# Altium footprint library Conn Breakaway Single Row.PcbLib: 40 footprints (part 1 of 3)
Each footprint in its own frame and in the unit in brackets; x right, y up, seen from the top. Pads: shape width x height; smd on the part's side, far side on the other; paste and mask are expansions set on the pad; w line width, h text height; cw(c..) or ccw(c..) is an arc to the next point about the centre after c.
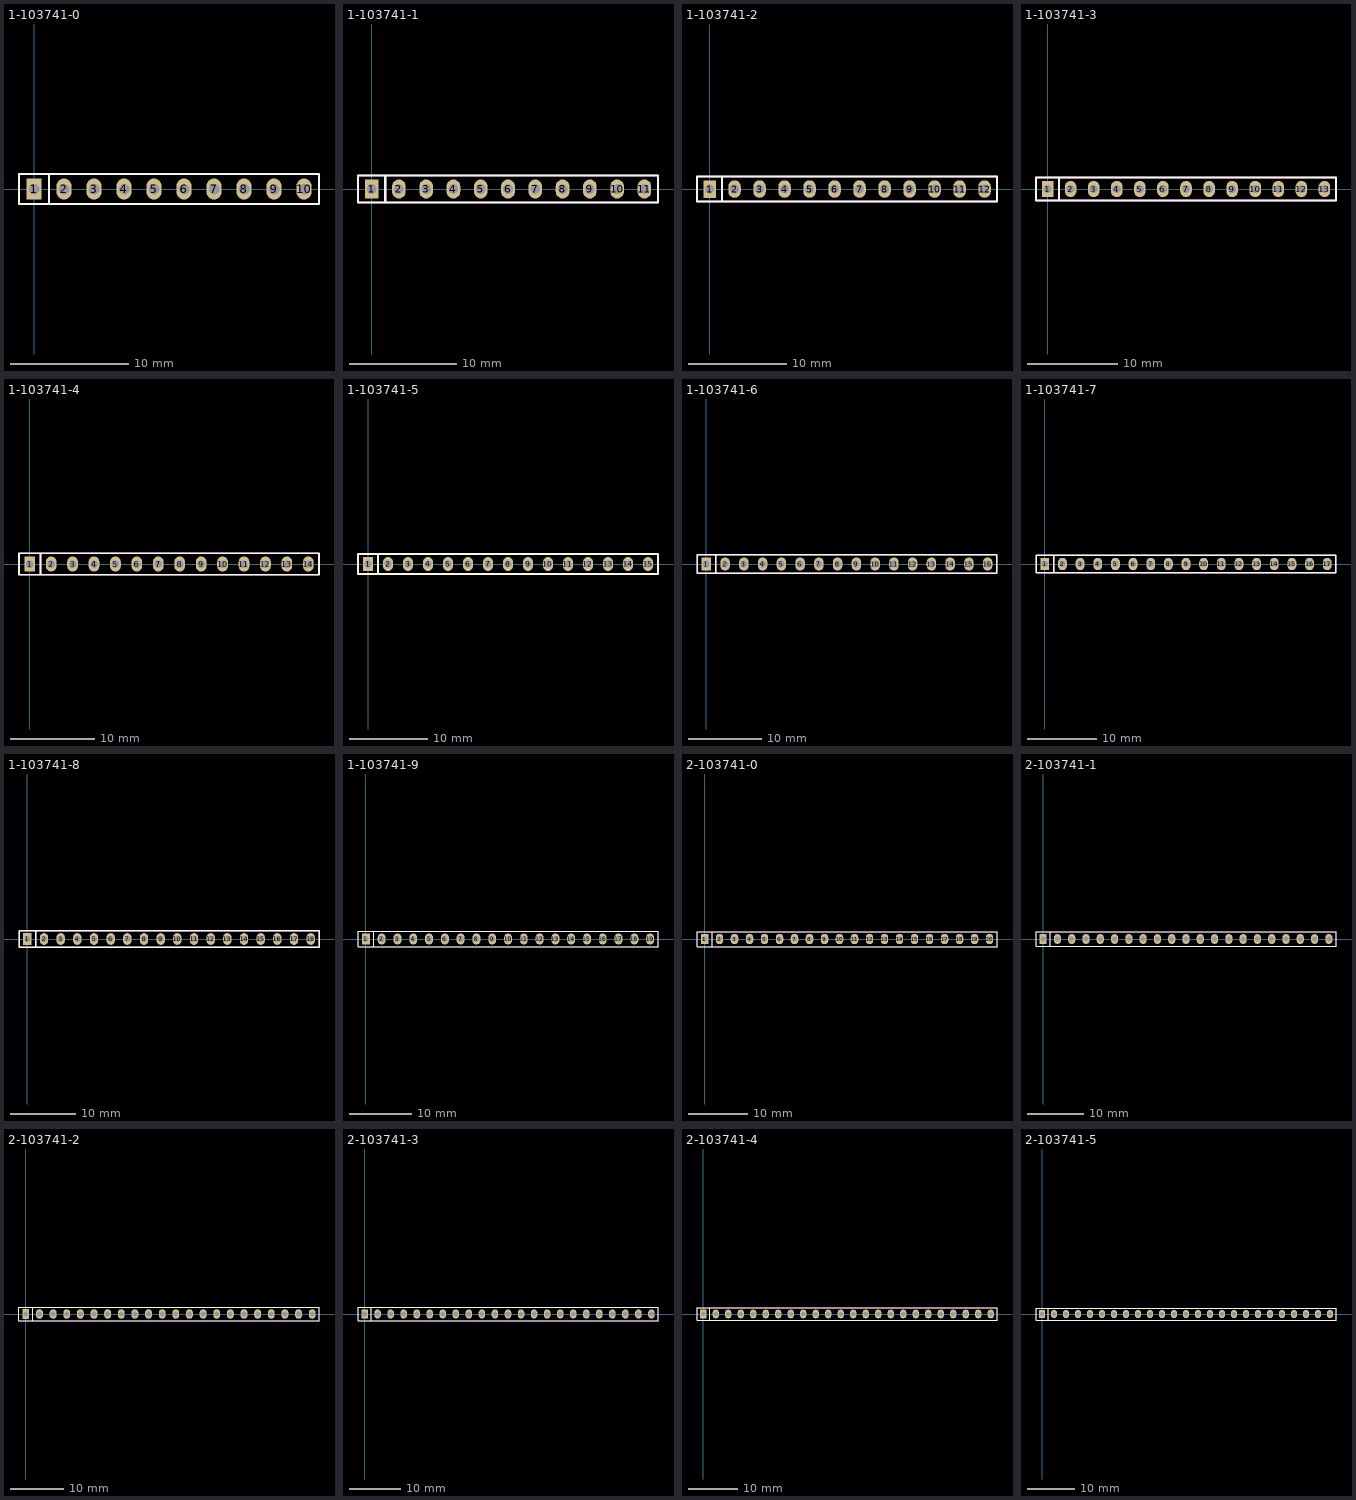
[diagram p0: the footprints below, top view; thin cyan lines are the x and y axes]

## 1-103741-0 [mil] "CONN Breakaway Single Row"
pads (10):
  rect 50x70 hole 35: 1(0,0)
  oval 50x70 hole 35: 2(100,0) 3(200,0) 4(300,0) 5(400,0) 6(500,0) 7(600,0) 8(700,0) 9(800,0) 10(900,0)
Top Overlay:
  lines w7.87: 50,-50 50,50 ; -50,-50 950,-50 950,50 -50,50 -50,-50
Mechanical 1:
  lines w7.87: 50,-50 50,50 ; -50,-50 -50,50 950,50 950,-50 -50,-50
3D body: height 320, standoff -90, extent 887.5,-12.5 912.5,12.5
3D body: height 90, standoff 0, extent 850,-45.99 950,46
3D body: height 320, standoff -90, extent 787.5,-12.5 812.5,12.5
3D body: height 90, standoff 0, extent 750,-45.99 850,46
3D body: height 320, standoff -90, extent 687.5,-12.5 712.5,12.5
3D body: height 90, standoff 0, extent 650,-45.99 750,46
3D body: height 320, standoff -90, extent 587.5,-12.5 612.5,12.5
3D body: height 90, standoff 0, extent 550,-45.99 650,46
3D body: height 320, standoff -90, extent 487.5,-12.5 512.5,12.5
3D body: height 90, standoff 0, extent 450,-45.99 550,46
3D body: height 320, standoff -90, extent 387.5,-12.5 412.5,12.5
3D body: height 90, standoff 0, extent 350,-45.99 450,46
3D body: height 320, standoff -90, extent 287.5,-12.5 312.5,12.5
3D body: height 90, standoff 0, extent 250,-45.99 350,46
3D body: height 320, standoff -90, extent 187.5,-12.5 212.5,12.5
3D body: height 90, standoff 0, extent 150,-45.99 250,46
3D body: height 320, standoff -90, extent 87.5,-12.5 112.5,12.5
3D body: height 90, standoff 0, extent 50,-45.99 150,46
3D body: height 320, standoff -90, extent -12.5,-12.5 12.5,12.5
3D body: height 90, standoff 0, extent -50,-45.99 50,46

## 1-103741-1 [mil] "CONN Breakaway Single Row"
pads (11):
  rect 50x70 hole 35: 1(0,0)
  oval 50x70 hole 35: 2(100,0) 3(200,0) 4(300,0) 5(400,0) 6(500,0) 7(600,0) 8(700,0) 9(800,0) 10(900,0) 11(1000,0)
Top Overlay:
  lines w7.87: 50,-50 50,50 ; -50,-50 -50,50 1050,50 1050,-50 -50,-50
Mechanical 1:
  lines w7.87: 50,-50 50,50 ; -50,-50 1050,-50 1050,50 -50,50 -50,-50
3D body: height 90, standoff 0, extent -50,-45.99 50,46
3D body: height 320, standoff -90, extent -12.5,-12.5 12.5,12.5
3D body: height 90, standoff 0, extent 50,-45.99 150,46
3D body: height 320, standoff -90, extent 87.5,-12.5 112.5,12.5
3D body: height 90, standoff 0, extent 150,-45.99 250,46
3D body: height 320, standoff -90, extent 187.5,-12.5 212.5,12.5
3D body: height 90, standoff 0, extent 250,-45.99 350,46
3D body: height 320, standoff -90, extent 287.5,-12.5 312.5,12.5
3D body: height 90, standoff 0, extent 350,-45.99 450,46
3D body: height 320, standoff -90, extent 387.5,-12.5 412.5,12.5
3D body: height 90, standoff 0, extent 450,-45.99 550,46
3D body: height 320, standoff -90, extent 487.5,-12.5 512.5,12.5
3D body: height 90, standoff 0, extent 550,-45.99 650,46
3D body: height 320, standoff -90, extent 587.5,-12.5 612.5,12.5
3D body: height 90, standoff 0, extent 650,-45.99 750,46
3D body: height 320, standoff -90, extent 687.5,-12.5 712.5,12.5
3D body: height 90, standoff 0, extent 750,-45.99 850,46
3D body: height 320, standoff -90, extent 787.5,-12.5 812.5,12.5
3D body: height 90, standoff 0, extent 850,-45.99 950,46
3D body: height 320, standoff -90, extent 887.5,-12.5 912.5,12.5
3D body: height 90, standoff 0, extent 950,-45.99 1050,46
3D body: height 320, standoff -90, extent 987.5,-12.5 1012.5,12.5

## 1-103741-2 [mil] "CONN Breakaway Single Row"
pads (12):
  rect 50x70 hole 35: 1(0,0)
  oval 50x70 hole 35: 2(100,0) 3(200,0) 4(300,0) 5(400,0) 6(500,0) 7(600,0) 8(700,0) 9(800,0) 10(900,0) 11(1000,0) 12(1100,0)
Top Overlay:
  lines w7.87: 50,-50 50,50 ; -50,-50 1150,-50 1150,50 -50,50 -50,-50
Mechanical 1:
  lines w7.87: 50,-50 50,50 ; -50,-50 -50,50 1150,50 1150,-50 -50,-50
3D body: height 90, standoff 0, extent -50,-45.99 50,46
3D body: height 320, standoff -90, extent -12.5,-12.5 12.5,12.5
3D body: height 90, standoff 0, extent 50,-45.99 150,46
3D body: height 320, standoff -90, extent 87.5,-12.5 112.5,12.5
3D body: height 90, standoff 0, extent 150,-45.99 250,46
3D body: height 320, standoff -90, extent 187.5,-12.5 212.5,12.5
3D body: height 90, standoff 0, extent 250,-45.99 350,46
3D body: height 320, standoff -90, extent 287.5,-12.5 312.5,12.5
3D body: height 90, standoff 0, extent 350,-45.99 450,46
3D body: height 320, standoff -90, extent 387.5,-12.5 412.5,12.5
3D body: height 90, standoff 0, extent 450,-45.99 550,46
3D body: height 320, standoff -90, extent 487.5,-12.5 512.5,12.5
3D body: height 90, standoff 0, extent 550,-45.99 650,46
3D body: height 320, standoff -90, extent 587.5,-12.5 612.5,12.5
3D body: height 90, standoff 0, extent 650,-45.99 750,46
3D body: height 320, standoff -90, extent 687.5,-12.5 712.5,12.5
3D body: height 90, standoff 0, extent 750,-45.99 850,46
3D body: height 320, standoff -90, extent 787.5,-12.5 812.5,12.5
3D body: height 90, standoff 0, extent 850,-45.99 950,46
3D body: height 320, standoff -90, extent 887.5,-12.5 912.5,12.5
3D body: height 90, standoff 0, extent 950,-45.99 1050,46
3D body: height 320, standoff -90, extent 987.5,-12.5 1012.5,12.5
3D body: height 90, standoff 0, extent 1050,-45.99 1150,46
3D body: height 320, standoff -90, extent 1087.5,-12.5 1112.5,12.5

## 1-103741-3 [mil] "CONN Breakaway Single Row"
pads (13):
  rect 50x70 hole 35: 1(0,0)
  oval 50x70 hole 35: 2(100,0) 3(200,0) 4(300,0) 5(400,0) 6(500,0) 7(600,0) 8(700,0) 9(800,0) 10(900,0) 11(1000,0) 12(1100,0) 13(1200,0)
Top Overlay:
  lines w7.87: 50,-50 50,50 ; -50,-50 -50,50 1250,50 1250,-50 -50,-50
Mechanical 1:
  lines w7.87: 50,-50 50,50 ; -50,-50 1250,-50 1250,50 -50,50 -50,-50
3D body: height 90, standoff 0, extent -50,-45.99 50,46
3D body: height 320, standoff -90, extent -12.5,-12.5 12.5,12.5
3D body: height 90, standoff 0, extent 50,-45.99 150,46
3D body: height 320, standoff -90, extent 87.5,-12.5 112.5,12.5
3D body: height 90, standoff 0, extent 150,-45.99 250,46
3D body: height 320, standoff -90, extent 187.5,-12.5 212.5,12.5
3D body: height 90, standoff 0, extent 250,-45.99 350,46
3D body: height 320, standoff -90, extent 287.5,-12.5 312.5,12.5
3D body: height 90, standoff 0, extent 350,-45.99 450,46
3D body: height 320, standoff -90, extent 387.5,-12.5 412.5,12.5
3D body: height 90, standoff 0, extent 450,-45.99 550,46
3D body: height 320, standoff -90, extent 487.5,-12.5 512.5,12.5
3D body: height 90, standoff 0, extent 550,-45.99 650,46
3D body: height 320, standoff -90, extent 587.5,-12.5 612.5,12.5
3D body: height 90, standoff 0, extent 650,-45.99 750,46
3D body: height 320, standoff -90, extent 687.5,-12.5 712.5,12.5
3D body: height 90, standoff 0, extent 750,-45.99 850,46
3D body: height 320, standoff -90, extent 787.5,-12.5 812.5,12.5
3D body: height 90, standoff 0, extent 850,-45.99 950,46
3D body: height 320, standoff -90, extent 887.5,-12.5 912.5,12.5
3D body: height 90, standoff 0, extent 950,-45.99 1050,46
3D body: height 320, standoff -90, extent 987.5,-12.5 1012.5,12.5
3D body: height 90, standoff 0, extent 1050,-45.99 1150,46
3D body: height 320, standoff -90, extent 1087.5,-12.5 1112.5,12.5
3D body: height 90, standoff 0, extent 1150,-45.99 1250,46
3D body: height 320, standoff -90, extent 1187.5,-12.5 1212.5,12.5

## 1-103741-4 [mil] "CONN Breakaway Single Row"
pads (14):
  rect 50x70 hole 35: 1(0,0)
  oval 50x70 hole 35: 2(100,0) 3(200,0) 4(300,0) 5(400,0) 6(500,0) 7(600,0) 8(700,0) 9(800,0) 10(900,0) 11(1000,0) 12(1100,0) 13(1200,0) 14(1300,0)
Top Overlay:
  lines w7.87: 50,-50 50,50 ; -50,-50 -50,50 1350,50 1350,-50 -50,-50
Mechanical 1:
  lines w7.87: 50,-50 50,50 ; -50,-50 1350,-50 1350,50 -50,50 -50,-50
3D body: height 90, standoff 0, extent -50,-45.99 50,46
3D body: height 320, standoff -90, extent -12.5,-12.5 12.5,12.5
3D body: height 90, standoff 0, extent 50,-45.99 150,46
3D body: height 320, standoff -90, extent 87.5,-12.5 112.5,12.5
3D body: height 90, standoff 0, extent 150,-45.99 250,46
3D body: height 320, standoff -90, extent 187.5,-12.5 212.5,12.5
3D body: height 90, standoff 0, extent 250,-45.99 350,46
3D body: height 320, standoff -90, extent 287.5,-12.5 312.5,12.5
3D body: height 90, standoff 0, extent 350,-45.99 450,46
3D body: height 320, standoff -90, extent 387.5,-12.5 412.5,12.5
3D body: height 90, standoff 0, extent 450,-45.99 550,46
3D body: height 320, standoff -90, extent 487.5,-12.5 512.5,12.5
3D body: height 90, standoff 0, extent 550,-45.99 650,46
3D body: height 320, standoff -90, extent 587.5,-12.5 612.5,12.5
3D body: height 90, standoff 0, extent 650,-45.99 750,46
3D body: height 320, standoff -90, extent 687.5,-12.5 712.5,12.5
3D body: height 90, standoff 0, extent 750,-45.99 850,46
3D body: height 320, standoff -90, extent 787.5,-12.5 812.5,12.5
3D body: height 90, standoff 0, extent 850,-45.99 950,46
3D body: height 320, standoff -90, extent 887.5,-12.5 912.5,12.5
3D body: height 90, standoff 0, extent 950,-45.99 1050,46
3D body: height 320, standoff -90, extent 987.5,-12.5 1012.5,12.5
3D body: height 90, standoff 0, extent 1050,-45.99 1150,46
3D body: height 320, standoff -90, extent 1087.5,-12.5 1112.5,12.5
3D body: height 90, standoff 0, extent 1150,-45.99 1250,46
3D body: height 320, standoff -90, extent 1187.5,-12.5 1212.5,12.5
3D body: height 90, standoff 0, extent 1250,-45.99 1350,46
3D body: height 320, standoff -90, extent 1287.5,-12.5 1312.5,12.5

## 1-103741-5 [mil] "CONN Breakaway Single Row"
pads (15):
  rect 50x70 hole 35: 1(0,0)
  oval 50x70 hole 35: 2(100,0) 3(200,0) 4(300,0) 5(400,0) 6(500,0) 7(600,0) 8(700,0) 9(800,0) 10(900,0) 11(1000,0) 12(1100,0) 13(1200,0) 14(1300,0) 15(1400,0)
Top Overlay:
  lines w7.87: 50,-50 50,50 ; -50,-50 -50,50 1450,50 1450,-50 -50,-50
Mechanical 1:
  lines w7.87: 50,-50 50,50 ; -50,-50 1450,-50 1450,50 -50,50 -50,-50
3D body: height 320, standoff -90, extent 1387.5,-12.5 1412.5,12.5
3D body: height 90, standoff 0, extent 1350,-45.99 1450,46
3D body: height 320, standoff -90, extent 1287.5,-12.5 1312.5,12.5
3D body: height 90, standoff 0, extent 1250,-45.99 1350,46
3D body: height 320, standoff -90, extent 1187.5,-12.5 1212.5,12.5
3D body: height 90, standoff 0, extent 1150,-45.99 1250,46
3D body: height 320, standoff -90, extent 1087.5,-12.5 1112.5,12.5
3D body: height 90, standoff 0, extent 1050,-45.99 1150,46
3D body: height 320, standoff -90, extent 987.5,-12.5 1012.5,12.5
3D body: height 90, standoff 0, extent 950,-45.99 1050,46
3D body: height 320, standoff -90, extent 887.5,-12.5 912.5,12.5
3D body: height 90, standoff 0, extent 850,-45.99 950,46
3D body: height 320, standoff -90, extent 787.5,-12.5 812.5,12.5
3D body: height 90, standoff 0, extent 750,-45.99 850,46
3D body: height 320, standoff -90, extent 687.5,-12.5 712.5,12.5
3D body: height 90, standoff 0, extent 650,-45.99 750,46
3D body: height 320, standoff -90, extent 587.5,-12.5 612.5,12.5
3D body: height 90, standoff 0, extent 550,-45.99 650,46
3D body: height 320, standoff -90, extent 487.5,-12.5 512.5,12.5
3D body: height 90, standoff 0, extent 450,-45.99 550,46
3D body: height 320, standoff -90, extent 387.5,-12.5 412.5,12.5
3D body: height 90, standoff 0, extent 350,-45.99 450,46
3D body: height 320, standoff -90, extent 287.5,-12.5 312.5,12.5
3D body: height 90, standoff 0, extent 250,-45.99 350,46
3D body: height 320, standoff -90, extent 187.5,-12.5 212.5,12.5
3D body: height 90, standoff 0, extent 150,-45.99 250,46
3D body: height 320, standoff -90, extent 87.5,-12.5 112.5,12.5
3D body: height 90, standoff 0, extent 50,-45.99 150,46
3D body: height 320, standoff -90, extent -12.5,-12.5 12.5,12.5
3D body: height 90, standoff 0, extent -50,-45.99 50,46

## 1-103741-6 [mil] "CONN Breakaway Single Row"
pads (16):
  rect 50x70 hole 35: 1(0,0)
  oval 50x70 hole 35: 2(100,0) 3(200,0) 4(300,0) 5(400,0) 6(500,0) 7(600,0) 8(700,0) 9(800,0) 10(900,0) 11(1000,0) 12(1100,0) 13(1200,0) 14(1300,0) 15(1400,0) 16(1500,0)
Top Overlay:
  lines w7.87: 50,-50 50,50 ; -50,-50 -50,50 1550,50 1550,-50 -50,-50
Mechanical 1:
  lines w7.87: 50,-50 50,50 ; -50,-50 1550,-50 1550,50 -50,50 -50,-50
3D body: height 320, standoff -90, extent 1487.5,-12.5 1512.5,12.5
3D body: height 90, standoff 0, extent 1450,-45.99 1550,46
3D body: height 320, standoff -90, extent 1387.5,-12.5 1412.5,12.5
3D body: height 90, standoff 0, extent 1350,-45.99 1450,46
3D body: height 320, standoff -90, extent 1287.5,-12.5 1312.5,12.5
3D body: height 90, standoff 0, extent 1250,-45.99 1350,46
3D body: height 320, standoff -90, extent 1187.5,-12.5 1212.5,12.5
3D body: height 90, standoff 0, extent 1150,-45.99 1250,46
3D body: height 320, standoff -90, extent 1087.5,-12.5 1112.5,12.5
3D body: height 90, standoff 0, extent 1050,-45.99 1150,46
3D body: height 320, standoff -90, extent 987.5,-12.5 1012.5,12.5
3D body: height 90, standoff 0, extent 950,-45.99 1050,46
3D body: height 320, standoff -90, extent 887.5,-12.5 912.5,12.5
3D body: height 90, standoff 0, extent 850,-45.99 950,46
3D body: height 320, standoff -90, extent 787.5,-12.5 812.5,12.5
3D body: height 90, standoff 0, extent 750,-45.99 850,46
3D body: height 320, standoff -90, extent 687.5,-12.5 712.5,12.5
3D body: height 90, standoff 0, extent 650,-45.99 750,46
3D body: height 320, standoff -90, extent 587.5,-12.5 612.5,12.5
3D body: height 90, standoff 0, extent 550,-45.99 650,46
3D body: height 320, standoff -90, extent 487.5,-12.5 512.5,12.5
3D body: height 90, standoff 0, extent 450,-45.99 550,46
3D body: height 320, standoff -90, extent 387.5,-12.5 412.5,12.5
3D body: height 90, standoff 0, extent 350,-45.99 450,46
3D body: height 320, standoff -90, extent 287.5,-12.5 312.5,12.5
3D body: height 90, standoff 0, extent 250,-45.99 350,46
3D body: height 320, standoff -90, extent 187.5,-12.5 212.5,12.5
3D body: height 90, standoff 0, extent 150,-45.99 250,46
3D body: height 320, standoff -90, extent 87.5,-12.5 112.5,12.5
3D body: height 90, standoff 0, extent 50,-45.99 150,46
3D body: height 320, standoff -90, extent -12.5,-12.5 12.5,12.5
3D body: height 90, standoff 0, extent -50,-45.99 50,46

## 1-103741-7 [mil] "CONN Breakaway Single Row"
pads (17):
  rect 50x70 hole 35: 1(0,0)
  oval 50x70 hole 35: 2(100,0) 3(200,0) 4(300,0) 5(400,0) 6(500,0) 7(600,0) 8(700,0) 9(800,0) 10(900,0) 11(1000,0) 12(1100,0) 13(1200,0) 14(1300,0) 15(1400,0) 16(1500,0) 17(1600,0)
Top Overlay:
  lines w7.87: 50,-50 50,50 ; -50,-50 1650,-50 1650,50 -50,50 -50,-50
Mechanical 1:
  lines w7.87: 50,-50 50,50 ; -50,-50 -50,50 1650,50 1650,-50 -50,-50
3D body: height 320, standoff -90, extent 1587.5,-12.5 1612.5,12.5
3D body: height 90, standoff 0, extent 1550,-45.99 1650,46
3D body: height 320, standoff -90, extent 1487.5,-12.5 1512.5,12.5
3D body: height 90, standoff 0, extent 1450,-45.99 1550,46
3D body: height 320, standoff -90, extent 1387.5,-12.5 1412.5,12.5
3D body: height 90, standoff 0, extent 1350,-45.99 1450,46
3D body: height 320, standoff -90, extent 1287.5,-12.5 1312.5,12.5
3D body: height 90, standoff 0, extent 1250,-45.99 1350,46
3D body: height 320, standoff -90, extent 1187.5,-12.5 1212.5,12.5
3D body: height 90, standoff 0, extent 1150,-45.99 1250,46
3D body: height 320, standoff -90, extent 1087.5,-12.5 1112.5,12.5
3D body: height 90, standoff 0, extent 1050,-45.99 1150,46
3D body: height 320, standoff -90, extent 987.5,-12.5 1012.5,12.5
3D body: height 90, standoff 0, extent 950,-45.99 1050,46
3D body: height 320, standoff -90, extent 887.5,-12.5 912.5,12.5
3D body: height 90, standoff 0, extent 850,-45.99 950,46
3D body: height 320, standoff -90, extent 787.5,-12.5 812.5,12.5
3D body: height 90, standoff 0, extent 750,-45.99 850,46
3D body: height 320, standoff -90, extent 687.5,-12.5 712.5,12.5
3D body: height 90, standoff 0, extent 650,-45.99 750,46
3D body: height 320, standoff -90, extent 587.5,-12.5 612.5,12.5
3D body: height 90, standoff 0, extent 550,-45.99 650,46
3D body: height 320, standoff -90, extent 487.5,-12.5 512.5,12.5
3D body: height 90, standoff 0, extent 450,-45.99 550,46
3D body: height 320, standoff -90, extent 387.5,-12.5 412.5,12.5
3D body: height 90, standoff 0, extent 350,-45.99 450,46
3D body: height 320, standoff -90, extent 287.5,-12.5 312.5,12.5
3D body: height 90, standoff 0, extent 250,-45.99 350,46
3D body: height 320, standoff -90, extent 187.5,-12.5 212.5,12.5
3D body: height 90, standoff 0, extent 150,-45.99 250,46
3D body: height 320, standoff -90, extent 87.5,-12.5 112.5,12.5
3D body: height 90, standoff 0, extent 50,-45.99 150,46
3D body: height 320, standoff -90, extent -12.5,-12.5 12.5,12.5
3D body: height 90, standoff 0, extent -50,-45.99 50,46

## 1-103741-8 [mil] "CONN Breakaway Single Row"
pads (18):
  rect 50x70 hole 35: 1(0,0)
  oval 50x70 hole 35: 2(100,0) 3(200,0) 4(300,0) 5(400,0) 6(500,0) 7(600,0) 8(700,0) 9(800,0) 10(900,0) 11(1000,0) 12(1100,0) 13(1200,0) 14(1300,0) 15(1400,0) 16(1500,0) 17(1600,0) 18(1700,0)
Top Overlay:
  lines w7.87: 50,-50 50,50 ; -50,-50 -50,50 1750,50 1750,-50 -50,-50
Mechanical 1:
  lines w7.87: 50,-50 50,50 ; -50,-50 1750,-50 1750,50 -50,50 -50,-50
3D body: height 320, standoff -90, extent 1687.5,-12.5 1712.5,12.5
3D body: height 90, standoff 0, extent 1650,-45.99 1750,46
3D body: height 320, standoff -90, extent 1587.5,-12.5 1612.5,12.5
3D body: height 90, standoff 0, extent 1550,-45.99 1650,46
3D body: height 320, standoff -90, extent 1487.5,-12.5 1512.5,12.5
3D body: height 90, standoff 0, extent 1450,-45.99 1550,46
3D body: height 320, standoff -90, extent 1387.5,-12.5 1412.5,12.5
3D body: height 90, standoff 0, extent 1350,-45.99 1450,46
3D body: height 320, standoff -90, extent 1287.5,-12.5 1312.5,12.5
3D body: height 90, standoff 0, extent 1250,-45.99 1350,46
3D body: height 320, standoff -90, extent 1187.5,-12.5 1212.5,12.5
3D body: height 90, standoff 0, extent 1150,-45.99 1250,46
3D body: height 320, standoff -90, extent 1087.5,-12.5 1112.5,12.5
3D body: height 90, standoff 0, extent 1050,-45.99 1150,46
3D body: height 320, standoff -90, extent 987.5,-12.5 1012.5,12.5
3D body: height 90, standoff 0, extent 950,-45.99 1050,46
3D body: height 320, standoff -90, extent 887.5,-12.5 912.5,12.5
3D body: height 90, standoff 0, extent 850,-45.99 950,46
3D body: height 320, standoff -90, extent 787.5,-12.5 812.5,12.5
3D body: height 90, standoff 0, extent 750,-45.99 850,46
3D body: height 320, standoff -90, extent 687.5,-12.5 712.5,12.5
3D body: height 90, standoff 0, extent 650,-45.99 750,46
3D body: height 320, standoff -90, extent 587.5,-12.5 612.5,12.5
3D body: height 90, standoff 0, extent 550,-45.99 650,46
3D body: height 320, standoff -90, extent 487.5,-12.5 512.5,12.5
3D body: height 90, standoff 0, extent 450,-45.99 550,46
3D body: height 320, standoff -90, extent 387.5,-12.5 412.5,12.5
3D body: height 90, standoff 0, extent 350,-45.99 450,46
3D body: height 320, standoff -90, extent 287.5,-12.5 312.5,12.5
3D body: height 90, standoff 0, extent 250,-45.99 350,46
3D body: height 320, standoff -90, extent 187.5,-12.5 212.5,12.5
3D body: height 90, standoff 0, extent 150,-45.99 250,46
3D body: height 320, standoff -90, extent 87.5,-12.5 112.5,12.5
3D body: height 90, standoff 0, extent 50,-45.99 150,46
3D body: height 320, standoff -90, extent -12.5,-12.5 12.5,12.5
3D body: height 90, standoff 0, extent -50,-45.99 50,46

## 1-103741-9 [mil] "CONN Breakaway Single Row"
pads (19):
  rect 50x70 hole 35: 1(0,0)
  oval 50x70 hole 35: 2(100,0) 3(200,0) 4(300,0) 5(400,0) 6(500,0) 7(600,0) 8(700,0) 9(800,0) 10(900,0) 11(1000,0) 12(1100,0) 13(1200,0) 14(1300,0) 15(1400,0) 16(1500,0) 17(1600,0) 18(1700,0) 19(1800,0)
Top Overlay:
  lines w7.87: 50,-50 50,50 ; -50,-50 -50,50 1850,50 1850,-50 -50,-50
Mechanical 1:
  lines w7.87: 50,-50 50,50 ; -50,-50 1850,-50 1850,50 -50,50 -50,-50
3D body: height 90, standoff 0, extent -50,-45.99 50,46
3D body: height 320, standoff -90, extent -12.5,-12.5 12.5,12.5
3D body: height 90, standoff 0, extent 50,-45.99 150,46
3D body: height 320, standoff -90, extent 87.5,-12.5 112.5,12.5
3D body: height 90, standoff 0, extent 150,-45.99 250,46
3D body: height 320, standoff -90, extent 187.5,-12.5 212.5,12.5
3D body: height 90, standoff 0, extent 250,-45.99 350,46
3D body: height 320, standoff -90, extent 287.5,-12.5 312.5,12.5
3D body: height 90, standoff 0, extent 350,-45.99 450,46
3D body: height 320, standoff -90, extent 387.5,-12.5 412.5,12.5
3D body: height 90, standoff 0, extent 450,-45.99 550,46
3D body: height 320, standoff -90, extent 487.5,-12.5 512.5,12.5
3D body: height 90, standoff 0, extent 550,-45.99 650,46
3D body: height 320, standoff -90, extent 587.5,-12.5 612.5,12.5
3D body: height 90, standoff 0, extent 650,-45.99 750,46
3D body: height 320, standoff -90, extent 687.5,-12.5 712.5,12.5
3D body: height 90, standoff 0, extent 750,-45.99 850,46
3D body: height 320, standoff -90, extent 787.5,-12.5 812.5,12.5
3D body: height 90, standoff 0, extent 850,-45.99 950,46
3D body: height 320, standoff -90, extent 887.5,-12.5 912.5,12.5
3D body: height 90, standoff 0, extent 950,-45.99 1050,46
3D body: height 320, standoff -90, extent 987.5,-12.5 1012.5,12.5
3D body: height 90, standoff 0, extent 1050,-45.99 1150,46
3D body: height 320, standoff -90, extent 1087.5,-12.5 1112.5,12.5
3D body: height 90, standoff 0, extent 1150,-45.99 1250,46
3D body: height 320, standoff -90, extent 1187.5,-12.5 1212.5,12.5
3D body: height 90, standoff 0, extent 1250,-45.99 1350,46
3D body: height 320, standoff -90, extent 1287.5,-12.5 1312.5,12.5
3D body: height 90, standoff 0, extent 1350,-45.99 1450,46
3D body: height 320, standoff -90, extent 1387.5,-12.5 1412.5,12.5
3D body: height 90, standoff 0, extent 1450,-45.99 1550,46
3D body: height 320, standoff -90, extent 1487.5,-12.5 1512.5,12.5
3D body: height 90, standoff 0, extent 1550,-45.99 1650,46
3D body: height 320, standoff -90, extent 1587.5,-12.5 1612.5,12.5
3D body: height 90, standoff 0, extent 1650,-45.99 1750,46
3D body: height 320, standoff -90, extent 1687.5,-12.5 1712.5,12.5
3D body: height 90, standoff 0, extent 1750,-45.99 1850,46
3D body: height 320, standoff -90, extent 1787.5,-12.5 1812.5,12.5

## 2-103741-0 [mil] "CONN Breakaway Single Row"
pads (20):
  rect 50x70 hole 35: 1(0,0)
  oval 50x70 hole 35: 2(100,0) 3(200,0) 4(300,0) 5(400,0) 6(500,0) 7(600,0) 8(700,0) 9(800,0) 10(900,0) 11(1000,0) 12(1100,0) 13(1200,0) 14(1300,0) 15(1400,0) 16(1500,0) 17(1600,0) 18(1700,0) 19(1800,0) 20(1900,0)
Top Overlay:
  lines w7.87: 50,-50 50,50 ; -50,-50 -50,50 1950,50 1950,-50 -50,-50
Mechanical 1:
  lines w7.87: 50,-50 50,50 ; -50,-50 1950,-50 1950,50 -50,50 -50,-50
3D body: height 320, standoff -90, extent 1887.5,-12.5 1912.5,12.5
3D body: height 90, standoff 0, extent 1850,-45.99 1950,46
3D body: height 320, standoff -90, extent 1787.5,-12.5 1812.5,12.5
3D body: height 90, standoff 0, extent 1750,-45.99 1850,46
3D body: height 320, standoff -90, extent 1687.5,-12.5 1712.5,12.5
3D body: height 90, standoff 0, extent 1650,-45.99 1750,46
3D body: height 320, standoff -90, extent 1587.5,-12.5 1612.5,12.5
3D body: height 90, standoff 0, extent 1550,-45.99 1650,46
3D body: height 320, standoff -90, extent 1487.5,-12.5 1512.5,12.5
3D body: height 90, standoff 0, extent 1450,-45.99 1550,46
3D body: height 320, standoff -90, extent 1387.5,-12.5 1412.5,12.5
3D body: height 90, standoff 0, extent 1350,-45.99 1450,46
3D body: height 320, standoff -90, extent 1287.5,-12.5 1312.5,12.5
3D body: height 90, standoff 0, extent 1250,-45.99 1350,46
3D body: height 320, standoff -90, extent 1187.5,-12.5 1212.5,12.5
3D body: height 90, standoff 0, extent 1150,-45.99 1250,46
3D body: height 320, standoff -90, extent 1087.5,-12.5 1112.5,12.5
3D body: height 90, standoff 0, extent 1050,-45.99 1150,46
3D body: height 320, standoff -90, extent 987.5,-12.5 1012.5,12.5
3D body: height 90, standoff 0, extent 950,-45.99 1050,46
3D body: height 320, standoff -90, extent 887.5,-12.5 912.5,12.5
3D body: height 90, standoff 0, extent 850,-45.99 950,46
3D body: height 320, standoff -90, extent 787.5,-12.5 812.5,12.5
3D body: height 90, standoff 0, extent 750,-45.99 850,46
3D body: height 320, standoff -90, extent 687.5,-12.5 712.5,12.5
3D body: height 90, standoff 0, extent 650,-45.99 750,46
3D body: height 320, standoff -90, extent 587.5,-12.5 612.5,12.5
3D body: height 90, standoff 0, extent 550,-45.99 650,46
3D body: height 320, standoff -90, extent 487.5,-12.5 512.5,12.5
3D body: height 90, standoff 0, extent 450,-45.99 550,46
3D body: height 320, standoff -90, extent 387.5,-12.5 412.5,12.5
3D body: height 90, standoff 0, extent 350,-45.99 450,46
3D body: height 320, standoff -90, extent 287.5,-12.5 312.5,12.5
3D body: height 90, standoff 0, extent 250,-45.99 350,46
3D body: height 320, standoff -90, extent 187.5,-12.5 212.5,12.5
3D body: height 90, standoff 0, extent 150,-45.99 250,46
3D body: height 320, standoff -90, extent 87.5,-12.5 112.5,12.5
3D body: height 90, standoff 0, extent 50,-45.99 150,46
3D body: height 320, standoff -90, extent -12.5,-12.5 12.5,12.5
3D body: height 90, standoff 0, extent -50,-45.99 50,46

## 2-103741-1 [mil] "CONN Breakaway Single Row"
pads (21):
  rect 50x70 hole 35: 1(0,0)
  oval 50x70 hole 35: 2(100,0) 3(200,0) 4(300,0) 5(400,0) 6(500,0) 7(600,0) 8(700,0) 9(800,0) 10(900,0) 11(1000,0) 12(1100,0) 13(1200,0) 14(1300,0) 15(1400,0) 16(1500,0) 17(1600,0) 18(1700,0) 19(1800,0) 20(1900,0) 21(2000,0)
Top Overlay:
  lines w7.87: 50,-50 50,50 ; -50,-50 -50,50 2050,50 2050,-50 -50,-50
Mechanical 1:
  lines w7.87: 50,-50 50,50 ; -50,-50 2050,-50 2050,50 -50,50 -50,-50
3D body: height 90, standoff 0, extent 1950,-45.99 2050,46
3D body: height 320, standoff -90, extent 1987.5,-12.5 2012.5,12.5
3D body: height 90, standoff 0, extent 1550,-45.99 1650,46
3D body: height 320, standoff -90, extent 1587.5,-12.5 1612.5,12.5
3D body: height 90, standoff 0, extent 1650,-45.99 1750,46
3D body: height 320, standoff -90, extent 1687.5,-12.5 1712.5,12.5
3D body: height 90, standoff 0, extent 1750,-45.99 1850,46
3D body: height 320, standoff -90, extent 1787.5,-12.5 1812.5,12.5
3D body: height 90, standoff 0, extent 1850,-45.99 1950,46
3D body: height 320, standoff -90, extent 1887.5,-12.5 1912.5,12.5
3D body: height 90, standoff 0, extent 1150,-45.99 1250,46
3D body: height 320, standoff -90, extent 1187.5,-12.5 1212.5,12.5
3D body: height 90, standoff 0, extent 1250,-45.99 1350,46
3D body: height 320, standoff -90, extent 1287.5,-12.5 1312.5,12.5
3D body: height 90, standoff 0, extent 1350,-45.99 1450,46
3D body: height 320, standoff -90, extent 1387.5,-12.5 1412.5,12.5
3D body: height 90, standoff 0, extent 1450,-45.99 1550,46
3D body: height 320, standoff -90, extent 1487.5,-12.5 1512.5,12.5
3D body: height 90, standoff 0, extent 750,-45.99 850,46
3D body: height 320, standoff -90, extent 787.5,-12.5 812.5,12.5
3D body: height 90, standoff 0, extent 850,-45.99 950,46
3D body: height 320, standoff -90, extent 887.5,-12.5 912.5,12.5
3D body: height 90, standoff 0, extent 950,-45.99 1050,46
3D body: height 320, standoff -90, extent 987.5,-12.5 1012.5,12.5
3D body: height 90, standoff 0, extent 1050,-45.99 1150,46
3D body: height 320, standoff -90, extent 1087.5,-12.5 1112.5,12.5
3D body: height 90, standoff 0, extent 350,-45.99 450,46
3D body: height 320, standoff -90, extent 387.5,-12.5 412.5,12.5
3D body: height 90, standoff 0, extent 450,-45.99 550,46
3D body: height 320, standoff -90, extent 487.5,-12.5 512.5,12.5
3D body: height 90, standoff 0, extent 550,-45.99 650,46
3D body: height 320, standoff -90, extent 587.5,-12.5 612.5,12.5
3D body: height 90, standoff 0, extent 650,-45.99 750,46
3D body: height 320, standoff -90, extent 687.5,-12.5 712.5,12.5
3D body: height 90, standoff 0, extent -50,-45.99 50,46
3D body: height 320, standoff -90, extent -12.5,-12.5 12.5,12.5
3D body: height 90, standoff 0, extent 50,-45.99 150,46
3D body: height 320, standoff -90, extent 87.5,-12.5 112.5,12.5
3D body: height 90, standoff 0, extent 150,-45.99 250,46
3D body: height 320, standoff -90, extent 187.5,-12.5 212.5,12.5
3D body: height 90, standoff 0, extent 250,-45.99 350,46
3D body: height 320, standoff -90, extent 287.5,-12.5 312.5,12.5

## 2-103741-2 [mil] "CONN Breakaway Single Row"
pads (22):
  rect 50x70 hole 35: 1(0,0)
  oval 50x70 hole 35: 2(100,0) 3(200,0) 4(300,0) 5(400,0) 6(500,0) 7(600,0) 8(700,0) 9(800,0) 10(900,0) 11(1000,0) 12(1100,0) 13(1200,0) 14(1300,0) 15(1400,0) 16(1500,0) 17(1600,0) 18(1700,0) 19(1800,0) 20(1900,0) 21(2000,0) 22(2100,0)
Top Overlay:
  lines w7.87: 50,-50 50,50 ; -50,-50 -50,50 2150,50 2150,-50 -50,-50
Mechanical 1:
  lines w7.87: 50,-50 50,50 ; -50,-50 2150,-50 2150,50 -50,50 -50,-50
3D body: height 90, standoff 0, extent 1950,-45.99 2050,46
3D body: height 320, standoff -90, extent 1987.5,-12.5 2012.5,12.5
3D body: height 90, standoff 0, extent 2050,-45.99 2150,46
3D body: height 320, standoff -90, extent 2087.5,-12.5 2112.5,12.5
3D body: height 90, standoff 0, extent 1550,-45.99 1650,46
3D body: height 320, standoff -90, extent 1587.5,-12.5 1612.5,12.5
3D body: height 90, standoff 0, extent 1650,-45.99 1750,46
3D body: height 320, standoff -90, extent 1687.5,-12.5 1712.5,12.5
3D body: height 90, standoff 0, extent 1750,-45.99 1850,46
3D body: height 320, standoff -90, extent 1787.5,-12.5 1812.5,12.5
3D body: height 90, standoff 0, extent 1850,-45.99 1950,46
3D body: height 320, standoff -90, extent 1887.5,-12.5 1912.5,12.5
3D body: height 90, standoff 0, extent 1150,-45.99 1250,46
3D body: height 320, standoff -90, extent 1187.5,-12.5 1212.5,12.5
3D body: height 90, standoff 0, extent 1250,-45.99 1350,46
3D body: height 320, standoff -90, extent 1287.5,-12.5 1312.5,12.5
3D body: height 90, standoff 0, extent 1350,-45.99 1450,46
3D body: height 320, standoff -90, extent 1387.5,-12.5 1412.5,12.5
3D body: height 90, standoff 0, extent 1450,-45.99 1550,46
3D body: height 320, standoff -90, extent 1487.5,-12.5 1512.5,12.5
3D body: height 90, standoff 0, extent 750,-45.99 850,46
3D body: height 320, standoff -90, extent 787.5,-12.5 812.5,12.5
3D body: height 90, standoff 0, extent 850,-45.99 950,46
3D body: height 320, standoff -90, extent 887.5,-12.5 912.5,12.5
3D body: height 90, standoff 0, extent 950,-45.99 1050,46
3D body: height 320, standoff -90, extent 987.5,-12.5 1012.5,12.5
3D body: height 90, standoff 0, extent 1050,-45.99 1150,46
3D body: height 320, standoff -90, extent 1087.5,-12.5 1112.5,12.5
3D body: height 90, standoff 0, extent 350,-45.99 450,46
3D body: height 320, standoff -90, extent 387.5,-12.5 412.5,12.5
3D body: height 90, standoff 0, extent 450,-45.99 550,46
3D body: height 320, standoff -90, extent 487.5,-12.5 512.5,12.5
3D body: height 90, standoff 0, extent 550,-45.99 650,46
3D body: height 320, standoff -90, extent 587.5,-12.5 612.5,12.5
3D body: height 90, standoff 0, extent 650,-45.99 750,46
3D body: height 320, standoff -90, extent 687.5,-12.5 712.5,12.5
3D body: height 90, standoff 0, extent -50,-45.99 50,46
3D body: height 320, standoff -90, extent -12.5,-12.5 12.5,12.5
3D body: height 90, standoff 0, extent 50,-45.99 150,46
3D body: height 320, standoff -90, extent 87.5,-12.5 112.5,12.5
3D body: height 90, standoff 0, extent 150,-45.99 250,46
3D body: height 320, standoff -90, extent 187.5,-12.5 212.5,12.5
3D body: height 90, standoff 0, extent 250,-45.99 350,46
3D body: height 320, standoff -90, extent 287.5,-12.5 312.5,12.5

## 2-103741-3 [mil] "CONN Breakaway Single Row"
pads (23):
  rect 50x70 hole 35: 1(0,0)
  oval 50x70 hole 35: 2(100,0) 3(200,0) 4(300,0) 5(400,0) 6(500,0) 7(600,0) 8(700,0) 9(800,0) 10(900,0) 11(1000,0) 12(1100,0) 13(1200,0) 14(1300,0) 15(1400,0) 16(1500,0) 17(1600,0) 18(1700,0) 19(1800,0) 20(1900,0) 21(2000,0) 22(2100,0) 23(2200,0)
Top Overlay:
  lines w7.87: 50,-50 50,50 ; -50,-50 2250,-50 2250,50 -50,50 -50,-50
Mechanical 1:
  lines w7.87: 50,-50 50,50 ; -50,-50 -50,50 2250,50 2250,-50 -50,-50
3D body: height 90, standoff 0, extent 1950,-45.99 2050,46
3D body: height 320, standoff -90, extent 1987.5,-12.5 2012.5,12.5
3D body: height 90, standoff 0, extent 2050,-45.99 2150,46
3D body: height 320, standoff -90, extent 2087.5,-12.5 2112.5,12.5
3D body: height 90, standoff 0, extent 2150,-45.99 2250,46
3D body: height 320, standoff -90, extent 2187.5,-12.5 2212.5,12.5
3D body: height 90, standoff 0, extent 1550,-45.99 1650,46
3D body: height 320, standoff -90, extent 1587.5,-12.5 1612.5,12.5
3D body: height 90, standoff 0, extent 1650,-45.99 1750,46
3D body: height 320, standoff -90, extent 1687.5,-12.5 1712.5,12.5
3D body: height 90, standoff 0, extent 1750,-45.99 1850,46
3D body: height 320, standoff -90, extent 1787.5,-12.5 1812.5,12.5
3D body: height 90, standoff 0, extent 1850,-45.99 1950,46
3D body: height 320, standoff -90, extent 1887.5,-12.5 1912.5,12.5
3D body: height 90, standoff 0, extent 1150,-45.99 1250,46
3D body: height 320, standoff -90, extent 1187.5,-12.5 1212.5,12.5
3D body: height 90, standoff 0, extent 1250,-45.99 1350,46
3D body: height 320, standoff -90, extent 1287.5,-12.5 1312.5,12.5
3D body: height 90, standoff 0, extent 1350,-45.99 1450,46
3D body: height 320, standoff -90, extent 1387.5,-12.5 1412.5,12.5
3D body: height 90, standoff 0, extent 1450,-45.99 1550,46
3D body: height 320, standoff -90, extent 1487.5,-12.5 1512.5,12.5
3D body: height 90, standoff 0, extent 750,-45.99 850,46
3D body: height 320, standoff -90, extent 787.5,-12.5 812.5,12.5
3D body: height 90, standoff 0, extent 850,-45.99 950,46
3D body: height 320, standoff -90, extent 887.5,-12.5 912.5,12.5
3D body: height 90, standoff 0, extent 950,-45.99 1050,46
3D body: height 320, standoff -90, extent 987.5,-12.5 1012.5,12.5
3D body: height 90, standoff 0, extent 1050,-45.99 1150,46
3D body: height 320, standoff -90, extent 1087.5,-12.5 1112.5,12.5
3D body: height 90, standoff 0, extent 350,-45.99 450,46
3D body: height 320, standoff -90, extent 387.5,-12.5 412.5,12.5
3D body: height 90, standoff 0, extent 450,-45.99 550,46
3D body: height 320, standoff -90, extent 487.5,-12.5 512.5,12.5
3D body: height 90, standoff 0, extent 550,-45.99 650,46
3D body: height 320, standoff -90, extent 587.5,-12.5 612.5,12.5
3D body: height 90, standoff 0, extent 650,-45.99 750,46
3D body: height 320, standoff -90, extent 687.5,-12.5 712.5,12.5
3D body: height 90, standoff 0, extent -50,-45.99 50,46
3D body: height 320, standoff -90, extent -12.5,-12.5 12.5,12.5
3D body: height 90, standoff 0, extent 50,-45.99 150,46
3D body: height 320, standoff -90, extent 87.5,-12.5 112.5,12.5
3D body: height 90, standoff 0, extent 150,-45.99 250,46
3D body: height 320, standoff -90, extent 187.5,-12.5 212.5,12.5
3D body: height 90, standoff 0, extent 250,-45.99 350,46
3D body: height 320, standoff -90, extent 287.5,-12.5 312.5,12.5

## 2-103741-4 [mil] "CONN Breakaway Single Row"
pads (24):
  rect 50x70 hole 35: 1(0,0)
  oval 50x70 hole 35: 2(100,0) 3(200,0) 4(300,0) 5(400,0) 6(500,0) 7(600,0) 8(700,0) 9(800,0) 10(900,0) 11(1000,0) 12(1100,0) 13(1200,0) 14(1300,0) 15(1400,0) 16(1500,0) 17(1600,0) 18(1700,0) 19(1800,0) 20(1900,0) 21(2000,0) 22(2100,0) 23(2200,0) 24(2300,0)
Top Overlay:
  lines w7.87: 50,-50 50,50 ; -50,-50 -50,50 2350,50 2350,-50 -50,-50
Mechanical 1:
  lines w7.87: 50,-50 50,50 ; -50,-50 2350,-50 2350,50 -50,50 -50,-50
3D body: height 320, standoff -90, extent 1887.5,-12.5 1912.5,12.5
3D body: height 90, standoff 0, extent 1850,-45.99 1950,46
3D body: height 320, standoff -90, extent 1787.5,-12.5 1812.5,12.5
3D body: height 90, standoff 0, extent 1750,-45.99 1850,46
3D body: height 320, standoff -90, extent 1687.5,-12.5 1712.5,12.5
3D body: height 90, standoff 0, extent 1650,-45.99 1750,46
3D body: height 320, standoff -90, extent 1587.5,-12.5 1612.5,12.5
3D body: height 90, standoff 0, extent 1550,-45.99 1650,46
3D body: height 320, standoff -90, extent 2287.5,-12.5 2312.5,12.5
3D body: height 90, standoff 0, extent 2250,-45.99 2350,46
3D body: height 320, standoff -90, extent 2187.5,-12.5 2212.5,12.5
3D body: height 90, standoff 0, extent 2150,-45.99 2250,46
3D body: height 320, standoff -90, extent 2087.5,-12.5 2112.5,12.5
3D body: height 90, standoff 0, extent 2050,-45.99 2150,46
3D body: height 320, standoff -90, extent 1987.5,-12.5 2012.5,12.5
3D body: height 90, standoff 0, extent 1950,-45.99 2050,46
3D body: height 320, standoff -90, extent 1087.5,-12.5 1112.5,12.5
3D body: height 90, standoff 0, extent 1050,-45.99 1150,46
3D body: height 320, standoff -90, extent 987.5,-12.5 1012.5,12.5
3D body: height 90, standoff 0, extent 950,-45.99 1050,46
3D body: height 320, standoff -90, extent 887.5,-12.5 912.5,12.5
3D body: height 90, standoff 0, extent 850,-45.99 950,46
3D body: height 320, standoff -90, extent 787.5,-12.5 812.5,12.5
3D body: height 90, standoff 0, extent 750,-45.99 850,46
3D body: height 320, standoff -90, extent 1487.5,-12.5 1512.5,12.5
3D body: height 90, standoff 0, extent 1450,-45.99 1550,46
3D body: height 320, standoff -90, extent 1387.5,-12.5 1412.5,12.5
3D body: height 90, standoff 0, extent 1350,-45.99 1450,46
3D body: height 320, standoff -90, extent 1287.5,-12.5 1312.5,12.5
3D body: height 90, standoff 0, extent 1250,-45.99 1350,46
3D body: height 320, standoff -90, extent 1187.5,-12.5 1212.5,12.5
3D body: height 90, standoff 0, extent 1150,-45.99 1250,46
3D body: height 90, standoff 0, extent 350,-45.99 450,46
3D body: height 320, standoff -90, extent 387.5,-12.5 412.5,12.5
3D body: height 90, standoff 0, extent 450,-45.99 550,46
3D body: height 320, standoff -90, extent 487.5,-12.5 512.5,12.5
3D body: height 90, standoff 0, extent 550,-45.99 650,46
3D body: height 320, standoff -90, extent 587.5,-12.5 612.5,12.5
3D body: height 90, standoff 0, extent 650,-45.99 750,46
3D body: height 320, standoff -90, extent 687.5,-12.5 712.5,12.5
3D body: height 90, standoff 0, extent -50,-45.99 50,46
3D body: height 320, standoff -90, extent -12.5,-12.5 12.5,12.5
3D body: height 90, standoff 0, extent 50,-45.99 150,46
3D body: height 320, standoff -90, extent 87.5,-12.5 112.5,12.5
3D body: height 90, standoff 0, extent 150,-45.99 250,46
3D body: height 320, standoff -90, extent 187.5,-12.5 212.5,12.5
3D body: height 90, standoff 0, extent 250,-45.99 350,46
3D body: height 320, standoff -90, extent 287.5,-12.5 312.5,12.5

## 2-103741-5 [mil] "CONN Breakaway Single Row"
pads (25):
  rect 50x70 hole 35: 1(0,0)
  oval 50x70 hole 35: 2(100,0) 3(200,0) 4(300,0) 5(400,0) 6(500,0) 7(600,0) 8(700,0) 9(800,0) 10(900,0) 11(1000,0) 12(1100,0) 13(1200,0) 14(1300,0) 15(1400,0) 16(1500,0) 17(1600,0) 18(1700,0) 19(1800,0) 20(1900,0) 21(2000,0) 22(2100,0) 23(2200,0) 24(2300,0) 25(2400,0)
Top Overlay:
  lines w7.87: 50,-50 50,50 ; -50,-50 2450,-50 2450,50 -50,50 -50,-50
Mechanical 1:
  lines w7.87: 50,-50 50,50 ; -50,-50 -50,50 2450,50 2450,-50 -50,-50
3D body: height 320, standoff -90, extent 2387.5,-12.5 2412.5,12.5
3D body: height 90, standoff 0, extent 2350,-45.99 2450,46
3D body: height 320, standoff -90, extent 1887.5,-12.5 1912.5,12.5
3D body: height 90, standoff 0, extent 1850,-45.99 1950,46
3D body: height 320, standoff -90, extent 1787.5,-12.5 1812.5,12.5
3D body: height 90, standoff 0, extent 1750,-45.99 1850,46
3D body: height 320, standoff -90, extent 1687.5,-12.5 1712.5,12.5
3D body: height 90, standoff 0, extent 1650,-45.99 1750,46
3D body: height 320, standoff -90, extent 1587.5,-12.5 1612.5,12.5
3D body: height 90, standoff 0, extent 1550,-45.99 1650,46
3D body: height 320, standoff -90, extent 2287.5,-12.5 2312.5,12.5
3D body: height 90, standoff 0, extent 2250,-45.99 2350,46
3D body: height 320, standoff -90, extent 2187.5,-12.5 2212.5,12.5
3D body: height 90, standoff 0, extent 2150,-45.99 2250,46
3D body: height 320, standoff -90, extent 2087.5,-12.5 2112.5,12.5
3D body: height 90, standoff 0, extent 2050,-45.99 2150,46
3D body: height 320, standoff -90, extent 1987.5,-12.5 2012.5,12.5
3D body: height 90, standoff 0, extent 1950,-45.99 2050,46
3D body: height 320, standoff -90, extent 1087.5,-12.5 1112.5,12.5
3D body: height 90, standoff 0, extent 1050,-45.99 1150,46
3D body: height 320, standoff -90, extent 987.5,-12.5 1012.5,12.5
3D body: height 90, standoff 0, extent 950,-45.99 1050,46
3D body: height 320, standoff -90, extent 887.5,-12.5 912.5,12.5
3D body: height 90, standoff 0, extent 850,-45.99 950,46
3D body: height 320, standoff -90, extent 787.5,-12.5 812.5,12.5
3D body: height 90, standoff 0, extent 750,-45.99 850,46
3D body: height 320, standoff -90, extent 1487.5,-12.5 1512.5,12.5
3D body: height 90, standoff 0, extent 1450,-45.99 1550,46
3D body: height 320, standoff -90, extent 1387.5,-12.5 1412.5,12.5
3D body: height 90, standoff 0, extent 1350,-45.99 1450,46
3D body: height 320, standoff -90, extent 1287.5,-12.5 1312.5,12.5
3D body: height 90, standoff 0, extent 1250,-45.99 1350,46
3D body: height 320, standoff -90, extent 1187.5,-12.5 1212.5,12.5
3D body: height 90, standoff 0, extent 1150,-45.99 1250,46
3D body: height 320, standoff -90, extent 287.5,-12.5 312.5,12.5
3D body: height 90, standoff 0, extent 250,-45.99 350,46
3D body: height 320, standoff -90, extent 187.5,-12.5 212.5,12.5
3D body: height 90, standoff 0, extent 150,-45.99 250,46
3D body: height 320, standoff -90, extent 87.5,-12.5 112.5,12.5
3D body: height 90, standoff 0, extent 50,-45.99 150,46
3D body: height 320, standoff -90, extent -12.5,-12.5 12.5,12.5
3D body: height 90, standoff 0, extent -50,-45.99 50,46
3D body: height 320, standoff -90, extent 687.5,-12.5 712.5,12.5
3D body: height 90, standoff 0, extent 650,-45.99 750,46
3D body: height 320, standoff -90, extent 587.5,-12.5 612.5,12.5
3D body: height 90, standoff 0, extent 550,-45.99 650,46
3D body: height 320, standoff -90, extent 487.5,-12.5 512.5,12.5
3D body: height 90, standoff 0, extent 450,-45.99 550,46
3D body: height 320, standoff -90, extent 387.5,-12.5 412.5,12.5
3D body: height 90, standoff 0, extent 350,-45.99 450,46